# Altium footprint library MiniCNC_ver2.PcbLib: 7 footprints
Each footprint in its own frame and in the unit in brackets; x right, y up, seen from the top. Pads: shape width x height; smd on the part's side, far side on the other; paste and mask are expansions set on the pad; w line width, h text height; cw(c..) or ccw(c..) is an arc to the next point about the centre after c.
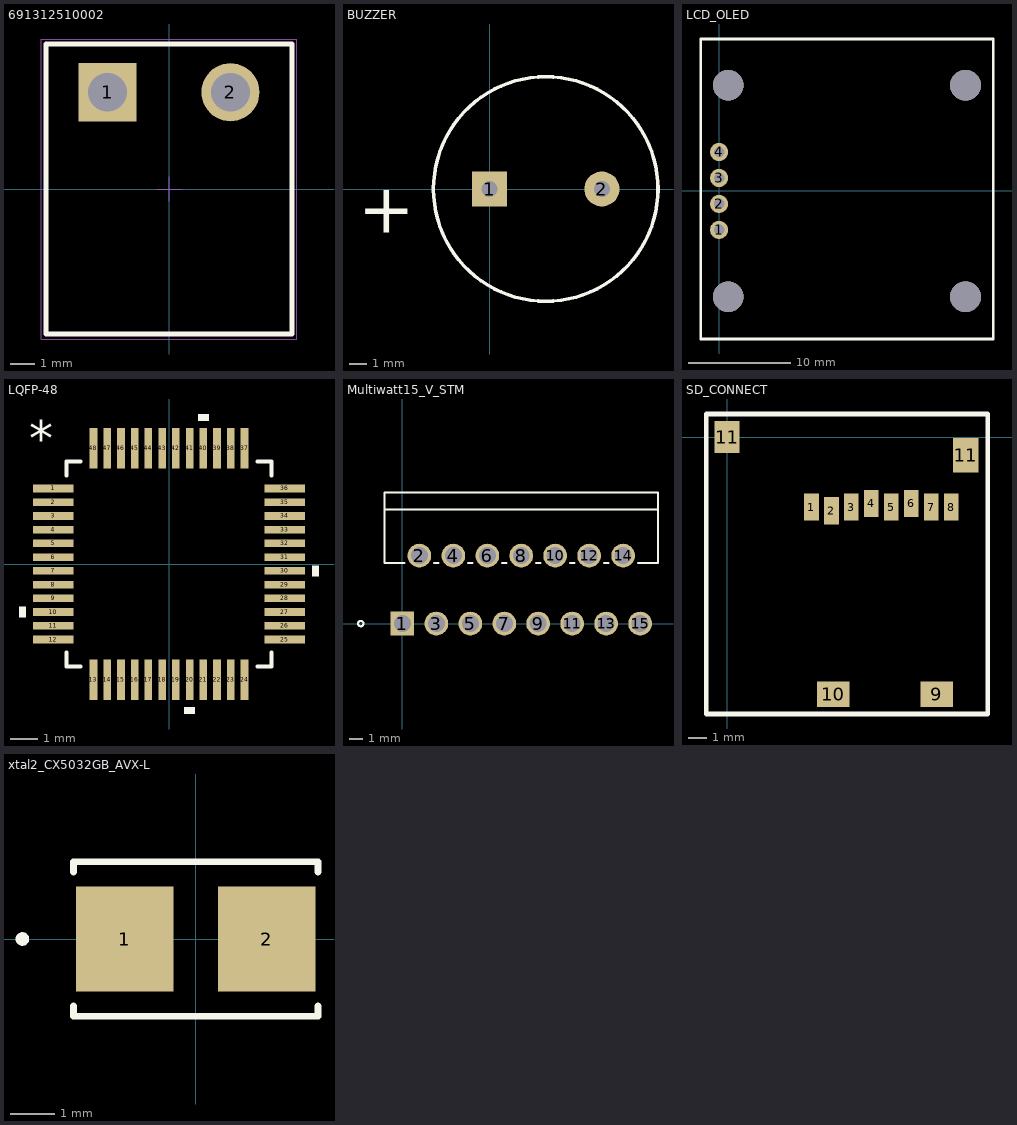
[diagram p0: the footprints below, top view; thin cyan lines are the x and y axes]

## 691312510002 [mm] "5,08mm - PCB Headers - Horizontal - Opened ends - 02p"
height 8.5
pads (2):
  rect 2.4x2.4 hole 1.6: 1(-2.54,4)
  round 2.4 hole 1.6: 2(2.54,4)
Top Overlay:
  lines w0.2: -5.08,-6 -5.08,6 5.08,6 5.08,-6 -5.08,-6
Mechanical 13:
  lines w0.1: -5.08,-6 5.08,-6 5.08,6 -5.08,6 -5.08,-6
Mechanical 15:
  lines w0.05: -0.5,0 0.5,0 ; 0,-0.5 0,0.5 ; -5.28,-6.2 -5.28,6.2 5.28,6.2 5.28,-6.2 -5.28,-6.2
3D body "691312510002.stp": height 8.55, standoff -3.45, extent -5.08,-6 5.08,6

## BUZZER [mil]
pads (2):
  rect 80x80 hole 36: 1(0,0)
  round 80 hole 36: 2(255.91,0)
Top Overlay:
  circle w8: c127.95,0 r255.91
  text "+" at -300,-100 h112.5
3D body "Altavoz.STEP": height 225.91, standoff -400.08, extent -108.27,-233.27 358.27,233.27

## LCD_OLED [mil]
pads (4):
  round 70 hole 40: 1(0,-150) 2(0,-50) 3(0,50) 4(0,150)
via 948.39,407.48 diameter 118.11 hole 118.11
via 35,407.48 diameter 118.11 hole 118.11
via 35,-407.48 diameter 118.11 hole 118.11
via 948.39,-407.48 diameter 118.11 hole 118.11
Top Overlay:
  lines w10: -70,-570 1055,-570 1055,-236.22 1055,236.22 1055,585 -70,585 -70,-570
3D body "Pantalla OLED 0.96'' 128x64.stp": height 374.02, standoff -59.06, extent -59.37,-559.05 1019.37,559.06

## LQFP-48 [mil]
pads (48):
  rect 58x11 smd: 1(-166,108.27) 2(-166,88.58) 3(-166,68.9) 4(-166,49.21) 5(-166,29.53) 6(-166,9.84) 7(-166,-9.84) 8(-166,-29.53) 9(-166,-49.21) 10(-166,-68.9) 11(-166,-88.58) 12(-166,-108.27) 25(166,-108.27) 26(166,-88.58) 27(166,-68.9) 28(166,-49.21) 29(166,-29.53) 30(166,-9.84) 31(166,9.84) 32(166,29.53) 33(166,49.21) 34(166,68.9) 35(166,88.58) 36(166,108.27)
  rect 11x58 smd: 13(-108.27,-166) 14(-88.58,-166) 15(-68.9,-166) 16(-49.21,-166) 17(-29.53,-166) 18(-9.84,-166) 19(9.84,-166) 20(29.53,-166) 21(49.21,-166) 22(68.9,-166) 23(88.58,-166) 24(108.27,-166) 37(108.27,166) 38(88.58,166) 39(68.9,166) 40(49.21,166) 41(29.53,166) 42(9.84,166) 43(-9.84,166) 44(-29.53,166) 45(-49.21,166) 46(-68.9,166) 47(-88.58,166) 48(-108.27,166)
Top Overlay:
  region: -205,-61.4 -215,-61.4 -215,-76.4 -205,-76.4
  region: 37.03,-205 22.03,-205 22.03,-215 37.03,-215
  region: 205,-2.34 215,-2.34 215,-17.34 205,-17.34
  region: 56.71,205 41.71,205 41.71,215 56.71,215
  lines w6: -147,-126.87 -147,-147 -126.87,-147 ; -147,126.87 -147,147 -126.87,147 ; 126.87,-147 147,-147 147,-126.87 ; 126.87,147 147,147 147,126.87
  text "*" at -200,155 h50
3D body: height 10, standoff 0, extent 0,0 10,10
3D body "LQFP-48.step": height 63.11, standoff 0, extent -180.98,-180.98 180.99,180.99

## Multiwatt15_V_STM [mil]
pads (15):
  rect 70x70 hole 50 mask+0: 1(0,0)
  round 70 hole 50 mask+0: 2(50,200) 3(100,0) 4(150,200) 5(200,0) 6(250,200) 7(300,0) 8(350,200) 9(400,0) 10(450,200) 11(500,0) 12(550,200) 13(600,0) 14(650,200) 15(700,0)
Top Overlay:
  circle w6: c-122.5,0 r8
  lines w6: -47.5,335.71 747.5,335.71 ; 6.87,178.71 -52.5,178.71 -52.5,385.71 752.5,385.71 752.5,178.71 693.13,178.71 ; 93.13,178.71 106.87,178.71 ; 193.13,178.71 206.87,178.71 ; 293.13,178.71 306.87,178.71 ; 393.13,178.71 406.87,178.71 ; 493.13,178.71 506.87,178.71 ; 593.13,178.71 606.87,178.71
3D body "Multiwatt15_V_STM.step": height 945.12, standoff -109.88, extent -47.52,-15 747.52,380.71

## SD_CONNECT [mm]
pads (12):
  rect 0.8x1.5 smd: 1(4.65,-3.85) 2(5.75,-4.05) 3(6.85,-3.85) 4(7.95,-3.65) 5(9.05,-3.85) 6(10.15,-3.65) 7(11.25,-3.85) 8(12.35,-3.85)
  rect 1.8x1.4 smd: 9(11.55,-14.15) 10(5.85,-14.15)
  rect 1.4x1.778 smd: 11(0,0)
  rect 1.4x1.9 smd: 11(13.15,-1)
Top Overlay:
  lines w0.254: -1.143,-15.24 -1.143,1.27 14.351,1.27 14.351,-15.24 0.635,-15.24 -1.143,-15.24
3D body "MicroSD Card, Push-Pull Connector.STEP": height 1.43, standoff -0.03, extent 1.772,-14.732 13.722,-3.332

## xtal2_CX5032GB_AVX-L [mil]
pads (2):
  rect 86x92 smd paste+0 mask+0: 1(-62.5,0) 2(62.5,0)
Top Overlay:
  circle w6: c-152.5,0 r3
  lines w6: -107.5,-58.95 -107.5,-68 107.5,-68 107.5,-58.95 ; -107.5,58.95 -107.5,68 107.5,68 107.5,58.95
3D body "xtal2_CX5032GB_AVX.step": height 42.99, standoff 0, extent -112.76,-78.27 112.76,78.27